# EAGLE library part FM24V02 (library OSSIdonghee)
FM24V02 256Kb Serial 3V F-RAM Memory by RAMTRON
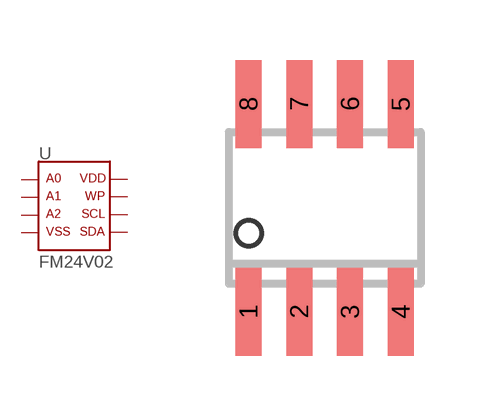
[diagram p8: symbol with the pads of SO8; footprint SO8]

Designator prefix U

## FM24V02-G  [SO8]
1  A0  in
2  A1  in
3  A2  in
4  VSS  pwr
5  SDA
6  SCL  in
7  WP  in
8  VDD  pwr

## Footprint SO8 (pad centres in mm)
smd 0.65 x 2.2: 1 -1.905,-2.6; 2 -0.635,-2.6; 3 0.635,-2.6; 4 1.905,-2.6; 5 1.905,2.6; 6 0.635,2.6; 7 -0.635,2.6; 8 -1.905,2.6